# Altium footprint library AUDIO_MIC_SPK.PcbLib: 21 footprints (part 2 of 2)
Each footprint in its own frame and in the unit in brackets; x right, y up, seen from the top. Pads: shape width x height; smd on the part's side, far side on the other; paste and mask are expansions set on the pad; w line width, h text height; cw(c..) or ccw(c..) is an arc to the next point about the centre after c.
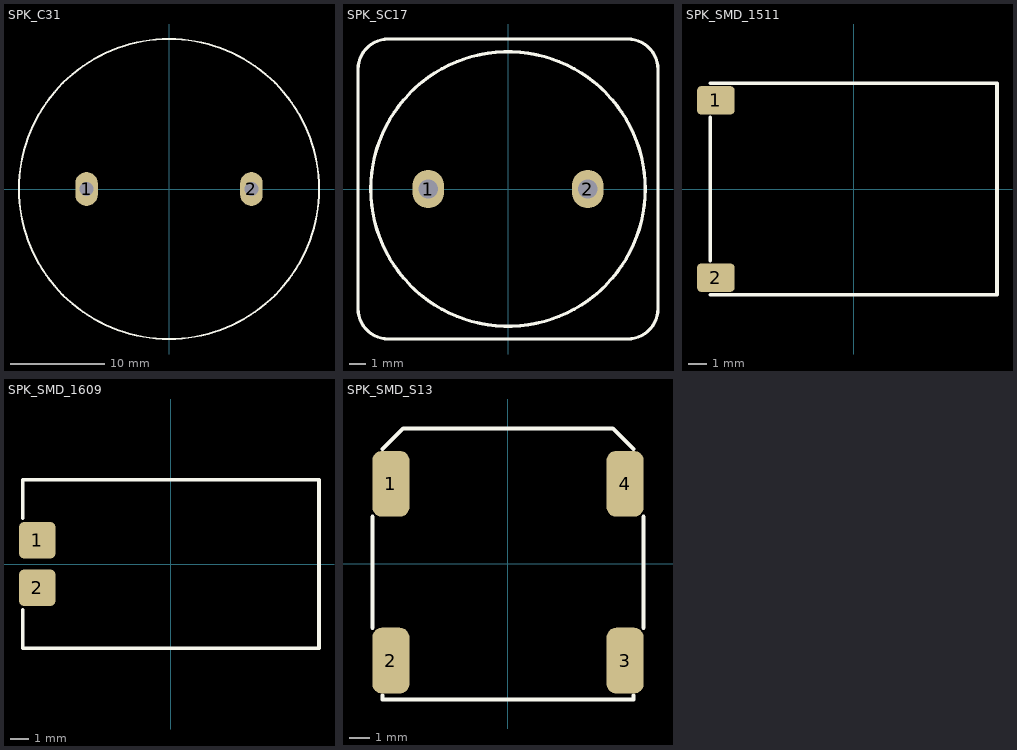
[diagram p1: the footprints below, top view; thin cyan lines are the x and y axes]

## SPK_C31 [mm] "SPEAKER, CVS-3108 31.8mm DIA"
pads (2):
  oval 2.4x3.6 hole 1.5: 1(-8.8,0) 2(8.8,0)
Top Overlay:
  circle w0.2: c0,0 r16
3D body "CVS-3108.stp": height 15.7, standoff -4.9, extent -15.9,-16.9 15.9,15.9

## SPK_SC17 [mm] "SPEAKER, SCS-17, 17mm DIA, 18.6 Square"
pads (2):
  oval 2x2.4 hole 1.2: 1(-5,0) 2(5,0)
Top Overlay:
  circle w0.2: c0,0 r8.6
  lines w0.2: -9.4,-7.5 ccw(c-7.5,-7.5) -7.5,-9.4 7.5,-9.4 ccw(c7.5,-7.5) 9.4,-7.5 9.4,7.5 ccw(c7.5,7.5) 7.5,9.4 -7.5,9.4 ccw(c-7.5,7.5) -9.4,7.5 -9.4,-7.5
3D body "Sonitron-SCS-17 P10-DEFAULT.STEP": height 9.81, standoff -5.7, extent -9.3,-9.3 9.3,9.3

## SPK_SMD_1511 [mm] "SPEAKER, CMS-15116 15X11X6mm"
pads (2):
  rrect30% 2x1.5 smd: 1(-7.3,4.7) 2(-7.3,-4.7)
Top Overlay:
  lines w0.2: -7.6,-5.6 7.6,-5.6 7.6,5.6 -7.6,5.6 ; -7.6,-3.8 -7.6,3.8
3D body "cms-15116-30-sp.stp": height 3.5, standoff -0.43, extent -7.5,-5.5 7.5,5.5

## SPK_SMD_1609 [mm] "SPEAKER, CDS-16098A 16X9X8mm"
pads (2):
  rrect30% 2x2 smd: 1(-7.3,1.3) 2(-7.3,-1.3)
Top Overlay:
  lines w0.2: -8.1,-2.5 -8.1,-4.6 8.1,-4.6 8.1,4.6 -8.1,4.6 -8.1,2.5
3D body "CDS-16098A.stp": height 3.5, standoff -0.26, extent -8.03,-4.56 8.03,4.56

## SPK_SMD_S13 [mm] "SPEAKER, CDS-13138-SMT 13X13mm"
pads (4):
  rrect50% 1.8x3.2 smd: 1(-5.7,3.9) 2(-5.7,-4.7) 3(5.7,-4.7) 4(5.7,3.9)
Top Overlay:
  lines w0.2: -6.6,-3.1 -6.6,2.3 ; -6.1,-6.4 -6.1,-6.6 6.1,-6.6 6.1,-6.4 ; -6.1,5.6 -5.1,6.6 5.1,6.6 6.1,5.6 ; 6.6,-3.1 6.6,2.3
3D body "CDS-13138-SMT.stp": height 4, standoff -0.01, extent -6.5,-6.5 6.5,6.5